# Altium schematic symbol library IC_TI_TUSB321.SchLib: 1 symbol
Pins are listed as number, name and electrical type; pins without a type are passive.

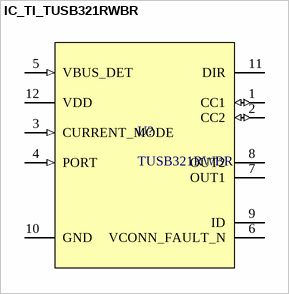
[diagram p0: symbol IC_TI_TUSB321RWBR]

## IC_TI_TUSB321RWBR
designator U?, comment TUSB321RWBR
USB Type-C configuration channel logic & port control with VCONN 12-X2QFN 0 to 70; Manufacturer_Name: Texas Instruments; CompType: IC; TYPE: TYPE; RefDes: RefDes; Copyright: Copyright (C) 2025 Ultra Librarian. All rights reserved.; Manufacturer_Part_Number: TUSB321RWBR; Application_BuildNumber: *; PartNumber: TUSB321RWBR; PackageReference: RWB0012A; MountType: SMT; RoHS: Y; Manufacturer: Texas Instruments
footprint IC_TUSB321RWBR
pins: 1 CC1 (io), 2 CC2 (io), 3 CURRENT_MODE (in), 4 PORT (in), 5 VBUS_DET (in), 6 VCONN_FAULT_N (oc), 7 OUT1 (oc), 8 OUT2 (oc), 9 ID (oc), 10 GND (power), 11 DIR (oc), 12 VDD (power)